# EAGLE library part FT234XD-T (library USB)
USB Full Speed to Basic UART IC with USB Charger Detection
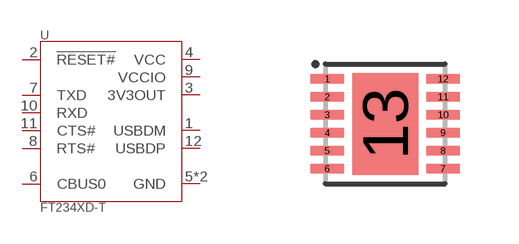
[diagram p1: symbol with the pads of DFN-12; footprint DFN-12]

Designator prefix U

## FT234XD-T (MF: FTDI; MP: FT234XD-T; VALUE: FT234XD-T)  [DFN-12]
1  USBDM
2  !RESET#  in
3  3V3OUT  pwr
4  VCC  pwr
5  GND  pwr
6  CBUS0
7  TXD  out
8  RTS#  out
9  VCCIO  pwr
10  RXD  in
11  CTS#  in
12  USBDP
13  GND  pwr

## Footprint DFN-12 (pad centres in mm)
smd 0.85 x 0.25: 1 -1.45,1.125; 2 -1.45,0.675; 3 -1.45,0.225; 4 -1.45,-0.225; 5 -1.45,-0.675; 6 -1.45,-1.125; 7 1.45,-1.125; 8 1.45,-0.675; 9 1.45,-0.225; 10 1.45,0.225; 11 1.45,0.675; 12 1.45,1.125
smd 1.65 x 2.55: 13 0,0